# EAGLE library part ACS709LLFTR-20BB-T (library Allegro_By_element14_Batch_1)
High Bandwidth, Fast Fault Response Current Sensor IC In Thermally Enhanced Package
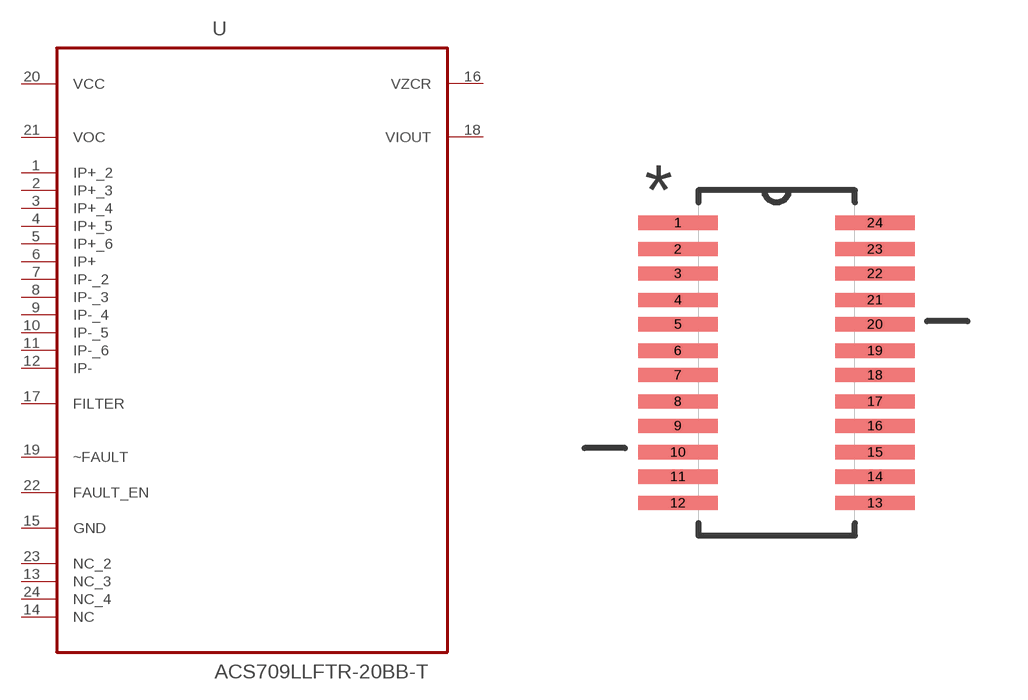
[diagram p29: symbol with the pads of SOP63P600X175-24N; footprint SOP63P600X175-24N]

Designator prefix U

## ACS709LLFTR-20BB-T (MPN: ACS709LLFTR-20BB-T; OC_FARNELL: 1858083; OC_NEWARK: 58R3722; PACKAGE: SOP-24; SUPPLIER: ALLEGRO MICROSYSTEMS)  [SOP63P600X175-24N]
1  IP+_2
2  IP+_3
3  IP+_4
4  IP+_5
5  IP+_6
6  IP+
7  IP-_2
8  IP-_3
9  IP-_4
10  IP-_5
11  IP-_6
12  IP-
13  NC_3  nc
14  NC  nc
15  GND  pas
16  VZCR  out
17  FILTER  in
18  VIOUT  out
19  ~FAULT  in
20  VCC  pwr
21  VOC  in
22  FAULT_EN  in
23  NC_2  nc
24  NC_4  nc

## Footprint SOP63P600X175-24N (pad centres in mm)
smd 1.981 x 0.356: 1 -2.464,3.505; 2 -2.464,2.845; 3 -2.464,2.235; 4 -2.464,1.575; 5 -2.464,0.965; 6 -2.464,0.305; 7 -2.464,-0.305; 8 -2.464,-0.965; 9 -2.464,-1.575; 10 -2.464,-2.235; 11 -2.464,-2.845; 12 -2.464,-3.505; 13 2.464,-3.505; 14 2.464,-2.845; 15 2.464,-2.235; 16 2.464,-1.575; 17 2.464,-0.965; 18 2.464,-0.305; 19 2.464,0.305; 20 2.464,0.965; 21 2.464,1.575; 22 2.464,2.235; 23 2.464,2.845; 24 2.464,3.505